# Altium footprint library SM_POWERDI5.PcbLib: 1 footprints
Each footprint in its own frame and in the unit in brackets; x right, y up, seen from the top. Pads: shape width x height; smd on the part's side, far side on the other; paste and mask are expansions set on the pad; w line width, h text height; cw(c..) or ccw(c..) is an arc to the next point about the centre after c.
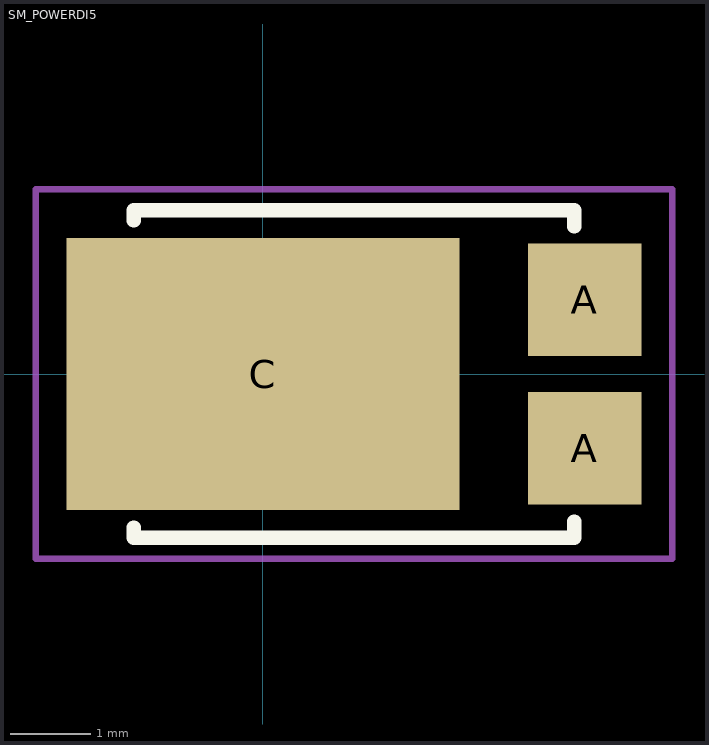
[diagram p0: the footprint, top view; thin cyan lines are the x and y axes]

## SM_POWERDI5 [mm] "3 Pin Power DI5 Pkg"
pads (3):
  rect 1.4x1.39 smd: A(3.982,-0.92) A(3.982,0.92)
  rect 4.86x3.36 smd: C(0,0)
Top Overlay:
  lines w0.178: -1.599,-1.9 -1.599,-2.025 3.851,-2.025 3.851,-1.825 ; -1.599,1.9 -1.599,2.025 3.851,2.025 3.851,1.825
Mechanical 15:
  lines w0.076: 0.872,0 1.38,0 ; 1.126,-0.254 1.126,0.254 ; -2.811,-2.286 -2.811,2.286 5.063,2.286 5.063,-2.286 -2.811,-2.286
3D body: height 1.15, standoff 0, extent -1.599,-2.025 3.851,2.025
3D body: height 0.43, standoff 0, extent -2.024,-0.95 -1.324,0.925
3D body: height 0.43, standoff 0, extent 3.351,-1.425 4.351,-0.425
3D body: height 0.43, standoff 0, extent 3.351,0.425 4.351,1.425